# Altium footprint library MP6540GU-P.PcbLib: 1 footprints
Each footprint in its own frame and in the unit in brackets; x right, y up, seen from the top. Pads: shape width x height; smd on the part's side, far side on the other; paste and mask are expansions set on the pad; w line width, h text height; cw(c..) or ccw(c..) is an arc to the next point about the centre after c.
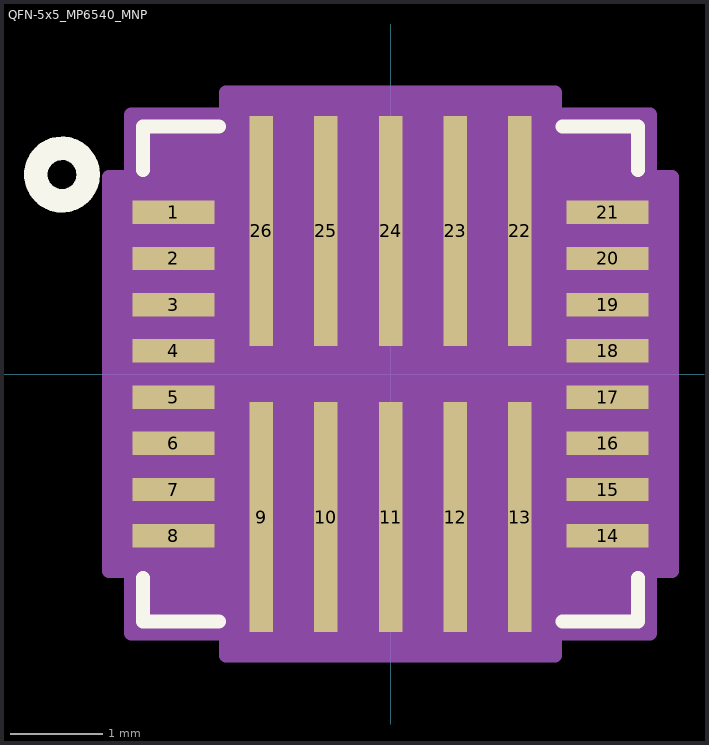
[diagram p0: the footprint, top view; thin cyan lines are the x and y axes]

## QFN-5x5_MP6540_MNP [mil]
pads (26):
  rect 35x10 smd paste+0 mask+0: 1(-92.52,68.92) 2(-92.52,49.23) 3(-92.52,29.54) 4(-92.52,9.85) 5(-92.52,-9.85) 6(-92.52,-29.54) 7(-92.52,-49.23) 8(-92.52,-68.92) 14(92.52,-68.92) 15(92.52,-49.23) 16(92.52,-29.54) 17(92.52,-9.85) 18(92.52,9.85) 19(92.52,29.54) 20(92.52,49.23) 21(92.52,68.92)
  rect 10x98 smd paste+0 mask+0: 9(-55.13,-61.02) 10(-27.56,-61.02) 11(0,-61.02) 12(27.56,-61.02) 13(55.13,-61.02) 22(55.13,61.02) 23(27.56,61.02) 24(0,61.02) 25(-27.56,61.02) 26(-55.13,61.02)
Top Overlay:
  circle w10: c-140,85 r11.18
  lines w6: -105.5,-87.02 -105.5,-105.5 -73.23,-105.5 ; -105.5,87.02 -105.5,105.5 -73.23,105.5 ; 73.23,-105.5 105.5,-105.5 105.5,-87.02 ; 73.23,105.5 105.5,105.5 105.5,87.02
Mechanical 13:
  lines w1: -100.5,50.5 -50.5,100.5 ; -100.5,-100.5 -100.5,100.5 100.5,100.5 100.5,-100.5 -100.5,-100.5
Mechanical 15:
  region: 70.13,-110.5 110.5,-110.5 110.5,-83.92 120.02,-83.92 120.02,83.92 110.5,83.92 110.5,110.5 70.13,110.5 70.13,120.02 -70.13,120.02 -70.13,110.5 -110.5,110.5 -110.5,83.92 -120.02,83.92 -120.02,-83.92 -110.5,-83.92 -110.5,-110.5 -70.13,-110.5 -70.13,-120.02 70.13,-120.02
  lines w6: -120.02,-83.92 -110.5,-83.92 -110.5,-110.5 -70.13,-110.5 -70.13,-120.02 70.13,-120.02 70.13,-110.5 110.5,-110.5 110.5,-83.92 120.02,-83.92 120.02,83.92 110.5,83.92 110.5,110.5 70.13,110.5 70.13,120.02 -70.13,120.02 -70.13,110.5 -110.5,110.5 -110.5,83.92 -120.02,83.92 -120.02,-83.92
3D body "MP6540GU.step": height 29.53, standoff -3.94, extent -100,-100 96.85,96.85